# Altium schematic symbol library SMA-J-P-H-ST-TH1.SchLib: 1 symbol
Pins are listed as number, name and electrical type; pins without a type are passive.

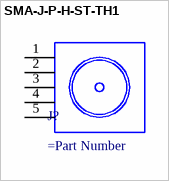
[diagram p0: symbol SMA-J-P-H-ST-TH1]

## SMA-J-P-H-ST-TH1
designator J?
=Decsription
pins: 1 GND (power), 2 GND (power), 3 ANT (power), 4 GND (power), 5 GND (power)